# Altium footprint library thermostat.PcbLib: 97 footprints (part 5 of 7)
Each footprint in its own frame and in the unit in brackets; x right, y up, seen from the top. Pads: shape width x height; smd on the part's side, far side on the other; paste and mask are expansions set on the pad; w line width, h text height; cw(c..) or ccw(c..) is an arc to the next point about the centre after c.
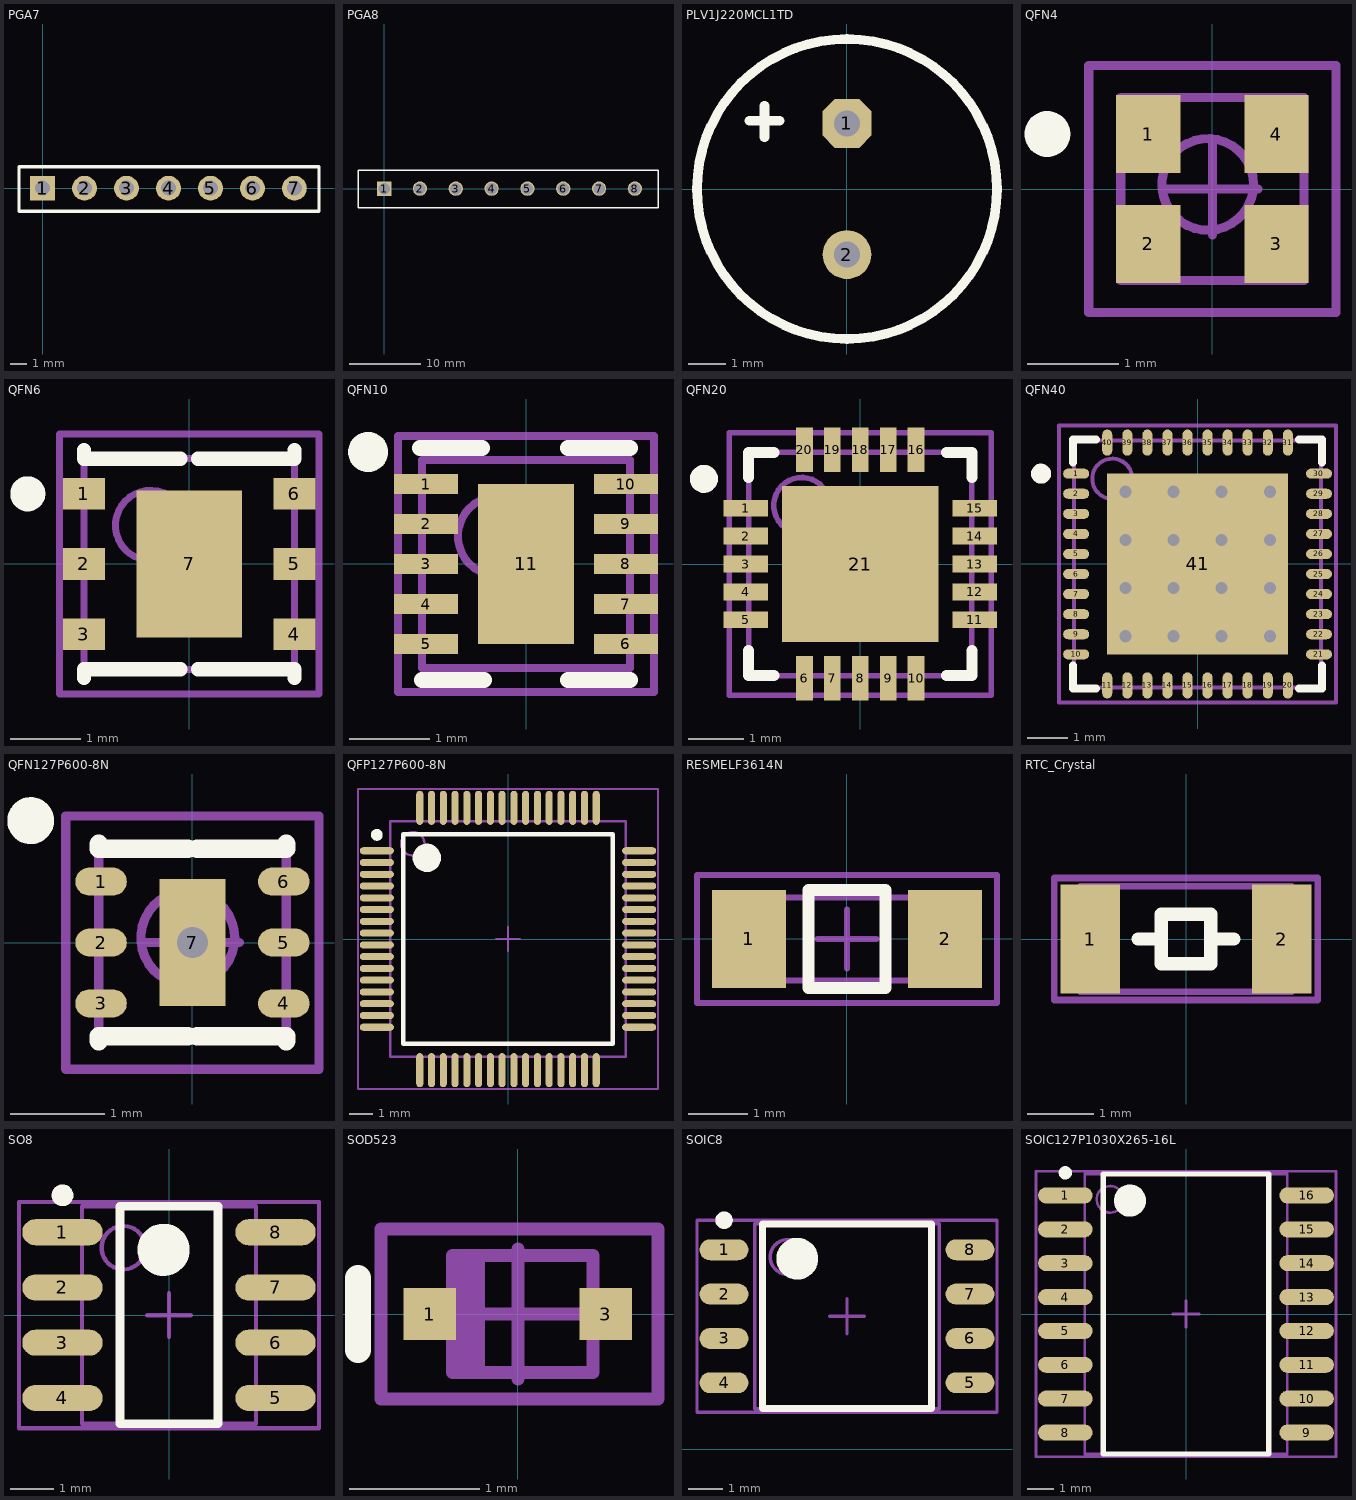
[diagram p4: the footprints below, top view; thin cyan lines are the x and y axes]

## PGA7 [mm]
pads (7):
  rect 1.5x1.5 hole 0.9: 1(0,0)
  round 1.5 hole 0.9: 2(2.54,0) 3(5.08,0) 4(7.62,0) 5(10.16,0) 6(12.7,0) 7(15.24,0)
Top Overlay:
  lines w0.2: -1.425,-1.4 -1.425,1.3 16.725,1.3 16.725,-1.4 -1.425,-1.4
3D body: height 8.64, standoff 0.1, extent -1.325,-1.3 16.625,1.2

## PGA8 [mm]
pads (8):
  rect 2x2 hole 1.6: 1(0,0)
  round 2 hole 1.6: 2(5,0) 3(10,0) 4(15,0) 5(20,0) 6(25,0) 7(30,0) 8(35,0)
Top Overlay:
  lines w0.2: -3.65,-2.7 38.225,-2.7 38.225,2.575 -3.625,2.575 -3.65,2.6 -3.65,-2.7
3D body: height 9.5, standoff 0.1, extent -3.2,-1.75 36.775,1.75

## PLV1J220MCL1TD [mm] "CAP ALUM 22UF 63V 20% RADIAL"
height 9
pads (2):
  oct 1.3x1.3 hole 0.7: 1(0,1.75)
  round 1.3 hole 0.7: 2(0,-1.75)
Top Overlay:
  circle w0.254: c0,0 r4
  lines w0.254: -2.6,1.825 -1.8,1.825 ; -2.2,1.375 -2.2,2.225
3D body: height 9, standoff 0, extent -3.943,-4.017 4.025,3.967

## QFN4 [mm] "QFN, 4-Leads, Body 2,0x2,0mm (max), Pitch 1,20mm, IPC High Density"
height 0.7
pads (4):
  rect 0.7x0.85 smd: 1(-0.7,0.6) 2(-0.7,-0.6) 3(0.7,-0.6) 4(0.7,0.6)
Top Overlay:
  circle w0.25: c-1.8,0.6 r0.125
Mechanical 13:
  circle w0.1: c-0.05,0.05 r0.5
  lines w0.1: -1,-1 1,-1 1,1 -1,1 -1,-1
Mechanical 15:
  lines w0.1: -0.5,0 0.5,0 ; 0,-0.5 0,0.5 ; -1.35,-1.35 1.35,-1.35 1.35,1.35 -1.35,1.35 -1.35,-1.35
3D body: height 0.7, standoff 0.1, extent -1,-1 1,1

## QFN6 [mm] "QFN, 6-Leads, Body 3,0x3,0mm (max), Pitch 1,00mm, IPC High Density"
height 0.9
pads (7):
  rect 0.6x0.45 smd: 1(-1.5,1) 2(-1.5,0) 3(-1.5,-1) 4(1.5,-1) 5(1.5,0) 6(1.5,1)
  rect 1.5x2.1 smd: 7(0,0)
Top Overlay:
  circle w0.25: c-2.3,1 r0.125
  lines w0.2: -1.5,-1.625 -1.5,-1.5 -0.125,-1.5 ; -1.5,1.625 -1.5,1.5 -0.125,1.5 ; 0.125,-1.5 1.5,-1.5 1.5,-1.625 ; 0.125,1.5 1.5,1.5 1.5,1.625
Mechanical 13:
  circle w0.1: c-0.55,0.55 r0.5
  lines w0.1: -1.5,-1.5 -1.5,1.5 1.5,1.5 1.5,-1.5 -1.5,-1.5
Mechanical 15:
  lines w0.1: -0.5,0 0.5,0 ; 0,-0.5 0,0.5 ; -1.85,-1.85 -1.85,1.85 1.85,1.85 1.85,-1.85 -1.85,-1.85
3D body: height 0.9, standoff 0.1, extent -1.5,-1.5 1.5,1.5

## QFN10 [mm] "QFN, 10-Leads, Body 2,6x2,6mm (max), Pitch 0,50mm, IPC High Density"
height 0.7
pads (11):
  rect 0.8x0.25 smd: 1(-1.25,1) 2(-1.25,0.5) 3(-1.25,0) 4(-1.25,-0.5) 5(-1.25,-1) 6(1.25,-1) 7(1.25,-0.5) 8(1.25,0) 9(1.25,0.5) 10(1.25,1)
  rect 1.2x2 smd: 11(0,0)
Top Overlay:
  circle w0.25: c-1.975,1.4 r0.125
  lines w0.2: -1.325,1.45 -0.55,1.45 ; -1.3,-1.45 -0.525,-1.45 ; 0.525,-1.45 1.3,-1.45 ; 0.525,1.45 1.3,1.45
Mechanical 13:
  circle w0.1: c-0.35,0.35 r0.5
  lines w0.1: -1.3,-1.3 -1.3,1.3 1.3,1.3 1.3,-1.3 -1.3,-1.3
Mechanical 15:
  lines w0.1: -0.5,0 0.5,0 ; 0,-0.5 0,0.5 ; -1.6,-1.6 -1.6,1.6 1.6,1.6 1.6,-1.6 -1.6,-1.6
3D body: height 0.7, standoff 0.1, extent -1.3,-1.3 1.3,1.3

## QFN20 [mm] "QFN20, 20-Leads, Body 4,0x4,0mm (max), Pitch 0,50mm, IPC High Density"
height 0.8
pads (21):
  rect 0.8x0.3 smd: 1(-2.05,1) 2(-2.05,0.5) 3(-2.05,0) 4(-2.05,-0.5) 5(-2.05,-1) 11(2.05,-1) 12(2.05,-0.5) 13(2.05,0) 14(2.05,0.5) 15(2.05,1)
  rect 0.3x0.8 smd: 6(-1,-2.05) 7(-0.5,-2.05) 8(0,-2.05) 9(0.5,-2.05) 10(1,-2.05) 16(1,2.05) 17(0.5,2.05) 18(0,2.05) 19(-0.5,2.05) 20(-1,2.05)
  rect 2.8x2.8 smd: 21(0,0)
Top Overlay:
  circle w0.25: c-2.8,1.525 r0.125
  lines w0.2: -2,-1.55 -2,-2 -1.55,-2 ; -2,1.55 -2,2 -1.55,2 ; 1.55,-2 2,-2 2,-1.55 ; 1.55,2 2,2 2,1.55
Mechanical 13:
  circle w0.1: c-1.05,1.05 r0.5
  lines w0.1: -2,-2 2,-2 2,2 -2,2 -2,-2
Mechanical 15:
  lines w0.1: -0.5,0 0.5,0 ; 0,-0.5 0,0.5 ; -2.35,-2.35 2.35,-2.35 2.35,2.35 -2.35,2.35 -2.35,-2.35
3D body: height 0.8, standoff 0.1, extent -2,-2 2,2

## QFN40 [mm]
height 1
pads (41):
  oval 0.65x0.25 smd: 1(-3.025,2.25) 2(-3.025,1.75) 3(-3.025,1.25) 4(-3.025,0.75) 5(-3.025,0.25) 6(-3.025,-0.25) 7(-3.025,-0.75) 8(-3.025,-1.25) 9(-3.025,-1.75) 10(-3.025,-2.25) 21(3.025,-2.25) 22(3.025,-1.75) 23(3.025,-1.25) 24(3.025,-0.75) 25(3.025,-0.25) 26(3.025,0.25) 27(3.025,0.75) 28(3.025,1.25) 29(3.025,1.75) 30(3.025,2.25)
  oval 0.25x0.65 smd: 11(-2.25,-3.025) 12(-1.75,-3.025) 13(-1.25,-3.025) 14(-0.75,-3.025) 15(-0.25,-3.025) 16(0.25,-3.025) 17(0.75,-3.025) 18(1.25,-3.025) 19(1.75,-3.025) 20(2.25,-3.025) 31(2.25,3.025) 32(1.75,3.025) 33(1.25,3.025) 34(0.75,3.025) 35(0.25,3.025) 36(-0.25,3.025) 37(-0.75,3.025) 38(-1.25,3.025) 39(-1.75,3.025) 40(-2.25,3.025)
  rect 4.5x4.5 smd: 41(0,0)
via 1.8,-1.8 diameter 0.66 hole 0.3
via 0.6,-1.8 diameter 0.66 hole 0.3
via -0.6,-1.8 diameter 0.66 hole 0.3
via -1.8,-1.8 diameter 0.66 hole 0.3
via 1.8,-0.6 diameter 0.66 hole 0.3
via 0.6,-0.6 diameter 0.66 hole 0.3
via -0.6,-0.6 diameter 0.66 hole 0.3
via -1.8,-0.6 diameter 0.66 hole 0.3
via 1.8,0.6 diameter 0.66 hole 0.3
via 0.6,0.6 diameter 0.66 hole 0.3
via -0.6,0.6 diameter 0.66 hole 0.3
via -1.8,0.6 diameter 0.66 hole 0.3
via 1.8,1.8 diameter 0.66 hole 0.3
via 0.6,1.8 diameter 0.66 hole 0.3
via -0.6,1.8 diameter 0.66 hole 0.3
via -1.8,1.8 diameter 0.66 hole 0.3
Top Overlay:
  circle w0.25: c-3.9,2.25 r0.125
  lines w0.2: -3.1,-2.525 -3.1,-3.1 -2.525,-3.1 ; -3.1,2.525 -3.1,3.1 -2.525,3.1 ; 2.525,-3.1 3.1,-3.1 3.1,-2.525 ; 2.525,3.1 3.1,3.1 3.1,2.525
Mechanical 13:
  circle w0.1: c-2.125,2.125 r0.5
  lines w0.1: -3.075,-3.075 3.075,-3.075 3.075,3.075 -3.075,3.075 -3.075,-3.075
Mechanical 15:
  lines w0.1: -0.5,0 0.5,0 ; 0,-0.5 0,0.5 ; -3.45,-3.45 3.45,-3.45 3.45,3.45 -3.45,3.45 -3.45,-3.45
3D body: height 1, standoff 0.1, extent -3.075,-3.075 3.075,3.075

## QFN127P600-8N [mm]
height 0.6
pads (7):
  oval 0.55x0.3 smd: 1(-0.975,0.65) 2(-0.975,0) 3(-0.975,-0.65) 4(0.975,-0.65) 5(0.975,0) 6(0.975,0.65)
  rect 0.7x1.35 smd: 7(0,0)
via 0,0 diameter 0.66 hole 0.33
Top Overlay:
  circle w0.25: c-1.725,1.3 r0.125
  lines w0.2: -1,-1.05 -1,-1 -0.05,-1 ; -1,1.05 -1,1 -0.05,1 ; 0.05,-1 1,-1 1,-1.05 ; 0.05,1 1,1 1,1.05
Mechanical 13:
  circle w0.1: c-0.05,0.05 r0.5
  lines w0.1: -1,-1 1,-1 1,1 -1,1 -1,-1
Mechanical 15:
  lines w0.1: -0.5,0 0.5,0 ; 0,-0.5 0,0.5 ; -1.35,-1.35 1.35,-1.35 1.35,1.35 -1.35,1.35 -1.35,-1.35
3D body: height 0.6, standoff 0.1, extent -1,-1 1,1

## QFP127P600-8N [mm]
height 1.6
pads (64):
  oval 1.45x0.3 smd: 1(-5.575,3.75) 2(-5.575,3.25) 3(-5.575,2.75) 4(-5.575,2.25) 5(-5.575,1.75) 6(-5.575,1.25) 7(-5.575,0.75) 8(-5.575,0.25) 9(-5.575,-0.25) 10(-5.575,-0.75) 11(-5.575,-1.25) 12(-5.575,-1.75) 13(-5.575,-2.25) 14(-5.575,-2.75) 15(-5.575,-3.25) 16(-5.575,-3.75) 33(5.575,-3.75) 34(5.575,-3.25) 35(5.575,-2.75) 36(5.575,-2.25) 37(5.575,-1.75) 38(5.575,-1.25) 39(5.575,-0.75) 40(5.575,-0.25) 41(5.575,0.25) 42(5.575,0.75) 43(5.575,1.25) 44(5.575,1.75) 45(5.575,2.25) 46(5.575,2.75) 47(5.575,3.25) 48(5.575,3.75)
  oval 0.3x1.45 smd: 17(-3.75,-5.575) 18(-3.25,-5.575) 19(-2.75,-5.575) 20(-2.25,-5.575) 21(-1.75,-5.575) 22(-1.25,-5.575) 23(-0.75,-5.575) 24(-0.25,-5.575) 25(0.25,-5.575) 26(0.75,-5.575) 27(1.25,-5.575) 28(1.75,-5.575) 29(2.25,-5.575) 30(2.75,-5.575) 31(3.25,-5.575) 32(3.75,-5.575) 49(3.75,5.575) 50(3.25,5.575) 51(2.75,5.575) 52(2.25,5.575) 53(1.75,5.575) 54(1.25,5.575) 55(0.75,5.575) 56(0.25,5.575) 57(-0.25,5.575) 58(-0.75,5.575) 59(-1.25,5.575) 60(-1.75,5.575) 61(-2.25,5.575) 62(-2.75,5.575) 63(-3.25,5.575) 64(-3.75,5.575)
Top Overlay:
  circle w0.25: c-5.575,4.425 r0.125
  circle w0.6: c-3.45,3.45 r0.3
  lines w0.2: -4.45,-4.45 -4.45,4.45 4.45,4.45 4.45,-4.45 -4.45,-4.45
Mechanical 13:
  circle w0.1: c-4.05,4.05 r0.5
  lines w0.1: -5,-5 -5,5 5,5 5,-5 -5,-5
Mechanical 15:
  lines w0.1: -0.5,0 0.5,0 ; 0,-0.5 0,0.5 ; -6.375,-6.375 -6.375,6.375 6.375,6.375 6.375,-6.375 -6.375,-6.375
3D body: height 1.6, standoff 0.05, extent -5,-5 5,5

## RESMELF3614N [mm] "MELF Resistor, 2-Leads, Body 3,6x1,4mm, IPC Medium Density"
height 1.4
pads (2):
  rect 1.25x1.65 smd: 1(-1.65,0) 2(1.65,0)
Top Overlay:
  lines w0.2: -0.65,-0.825 0.65,-0.825 0.65,0.825 -0.65,0.825 -0.65,-0.825
Mechanical 13:
  lines w0.1: -1.8,-0.7 -1.8,0.7 1.8,0.7 1.8,-0.7 -1.8,-0.7
Mechanical 15:
  lines w0.1: -0.5,0 0.5,0 ; 0,-0.5 0,0.5 ; -2.525,-1.075 -2.525,1.075 2.525,1.075 2.525,-1.075 -2.525,-1.075
3D body: height 1.4, standoff 0, extent -1.8,-0.7 1.8,0.7

## RTC_Crystal [mm] "RTC Crystal, 2-Leads, Body 3,2x1,6mm, IPC High Density"
height 0.9
pads (2):
  rect 0.9x1.65 smd: 1(-1.45,0) 2(1.45,0)
Top Overlay:
  lines w0.2: -0.725,0 -0.425,0 ; 0.4,0 0.725,0 ; -0.375,-0.375 -0.375,0.375 0.375,0.375 0.375,-0.375 -0.375,-0.375
Mechanical 13:
  lines w0.1: -1.6,-0.8 1.6,-0.8 1.6,0.8 -1.6,0.8 -1.6,-0.8
Mechanical 15:
  lines w0.1: -2,-0.925 2,-0.925 2,0.925 -2,0.925 -2,-0.925
3D body: height 0.9, standoff 0, extent -1.6,-0.8 1.6,0.8

## SO8 [mm] "SOIC, 8-Leads, Body 5,0x4,0mm (max), Pitch 1,27mm, IPC High Density"
height 1.75
pads (8):
  oval 1.85x0.6 smd: 1(-2.45,1.905) 2(-2.45,0.635) 3(-2.45,-0.635) 4(-2.45,-1.905) 5(2.45,-1.905) 6(2.45,-0.635) 7(2.45,0.635) 8(2.45,1.905)
Top Overlay:
  circle w0.6: c-0.125,1.5 r0.3
  circle w0.25: c-2.45,2.755 r0.125
  lines w0.2: -1.125,-2.5 1.125,-2.5 1.125,2.5 -1.125,2.5 -1.125,-2.5
Mechanical 13:
  circle w0.1: c-1.05,1.55 r0.5
  lines w0.1: -2,-2.5 2,-2.5 2,2.5 -2,2.5 -2,-2.5
Mechanical 15:
  lines w0.1: -0.5,0 0.5,0 ; 0,-0.5 0,0.5 ; -3.45,-2.6 3.45,-2.6 3.45,2.6 -3.45,2.6 -3.45,-2.6
3D body: height 1.75, standoff 0.2, extent -2,-2.5 2,2.5

## SOD523 [mm] "Molded Diode, 2-Leads, Body 1,7x0,9mm, IPC High Density"
height 0.85
pads (2):
  rect 0.4x0.4 smd: 1(-0.675,0) 3(0.675,0)
Top Overlay:
  lines w0.2: -1.225,-0.275 -1.225,0.275
Mechanical 13:
  rectangle: -0.492,-0.5 -0.25,0.5
  lines w0.1: -0.5,-0.45 -0.5,0.45 0.575,0.45 0.575,-0.45 -0.5,-0.45
Mechanical 15:
  lines w0.1: -0.5,0 0.5,0 ; 0,-0.5 0,0.5 ; -1.05,-0.65 -1.05,0.65 1.075,0.65 1.075,-0.65 -1.05,-0.65
3D body: height 0.85, standoff 0, extent -0.525,-0.5 0.6,0.5

## SOIC8 [mm] "SOIC, 8-Leads, Body 5,3x5,3mm (max), Pitch 1,27mm, IPC High Density"
height 2.65
pads (8):
  oval 1.4x0.6 smd: 1(-10.575,5.715) 2(-10.575,4.445) 3(-10.575,3.175) 4(-10.575,1.905) 5(-3.525,1.905) 6(-3.525,3.175) 7(-3.525,4.445) 8(-3.525,5.715)
Top Overlay:
  circle w0.6: c-8.475,5.46 r0.3
  circle w0.25: c-10.575,6.565 r0.125
  lines w0.2: -9.475,1.16 -4.625,1.16 -4.625,6.46 -9.475,6.46 -9.475,1.16
Mechanical 13:
  circle w0.1: c-8.75,5.51 r0.5
  lines w0.1: -9.7,1.16 -4.4,1.16 -4.4,6.46 -9.7,6.46 -9.7,1.16
Mechanical 15:
  lines w0.1: -7.55,3.81 -6.55,3.81 ; -7.05,3.31 -7.05,4.31 ; -11.35,1.06 -2.75,1.06 -2.75,6.56 -11.35,6.56 -11.35,1.06
3D body: height 2.65, standoff 0.2, extent -9.7,1.16 -4.4,6.46

## SOIC127P1030X265-16L [mm] "SOIC, 16-Leads, Body 10,5x7,6mm (max), Pitch 1,27mm, IPC High Density"
height 2.65
pads (16):
  oval 2.05x0.6 smd: 1(-4.525,4.445) 2(-4.525,3.175) 3(-4.525,1.905) 4(-4.525,0.635) 5(-4.525,-0.635) 6(-4.525,-1.905) 7(-4.525,-3.175) 8(-4.525,-4.445) 9(4.525,-4.445) 10(4.525,-3.175) 11(4.525,-1.905) 12(4.525,-0.635) 13(4.525,0.635) 14(4.525,1.905) 15(4.525,3.175) 16(4.525,4.445)
Top Overlay:
  circle w0.25: c-4.525,5.295 r0.125
  circle w0.6: c-2.1,4.25 r0.3
  lines w0.2: -3.1,-5.25 -3.1,5.25 3.1,5.25 3.1,-5.25 -3.1,-5.25
Mechanical 13:
  circle w0.1: c-2.85,4.3 r0.5
  lines w0.1: -3.8,-5.25 -3.8,5.25 3.8,5.25 3.8,-5.25 -3.8,-5.25
Mechanical 15:
  lines w0.1: -0.5,0 0.5,0 ; 0,-0.5 0,0.5 ; -5.625,-5.35 -5.625,5.35 5.625,5.35 5.625,-5.35 -5.625,-5.35
3D body: height 2.65, standoff 0.2, extent -3.8,-5.25 3.8,5.25